# EAGLE library part PD70224 (library Poe)
Dual MOSFET-based Bridge Rectifier
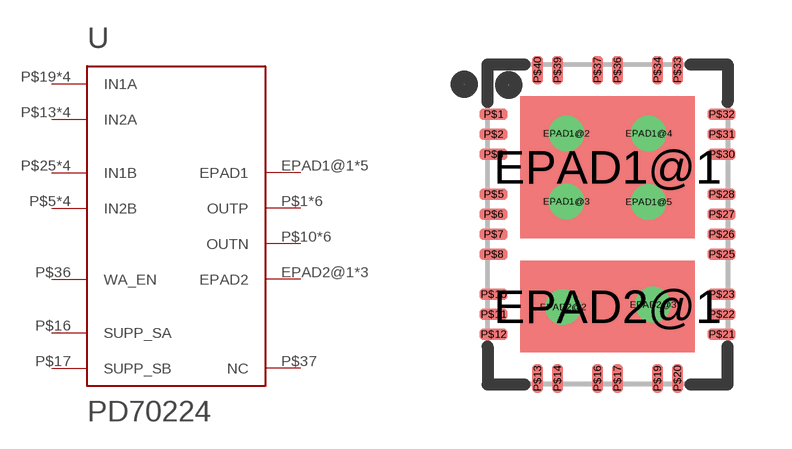
[diagram p6: symbol with the pads of 80-QFN(6X8); footprint 80-QFN(6X8)]

Designator prefix U

## PD70224  [80-QFN(6X8)]
EPAD1@1  EPAD1
EPAD1@2  EPAD1
EPAD1@3  EPAD1
EPAD1@4  EPAD1
EPAD1@5  EPAD1
EPAD2@1  EPAD2
EPAD2@2  EPAD2
EPAD2@3  EPAD2
P$1  OUTP
P$2  OUTP
P$3  OUTP
P$5  IN2B
P$6  IN2B
P$7  IN2B
P$8  IN2B
P$10  OUTN
P$11  OUTN
P$12  OUTN
P$13  IN2A
P$14  IN2A
P$16  SUPP_SA
P$17  SUPP_SB
P$19  IN1A
P$20  IN1A
P$21  OUTN
P$22  OUTN
P$23  OUTN
P$25  IN1B
P$26  IN1B
P$27  IN1B
P$28  IN1B
P$30  OUTP
P$31  OUTP
P$32  OUTP
P$33  IN1A
P$34  IN1A
P$36  WA_EN
P$37  NC
P$39  IN2A
P$40  IN2A

## Footprint 80-QFN(6X8) (pad centres in mm)
smd 4.37 x 3.56: EPAD1@1 0,1.425
drill 0.381: EPAD1@2 -1.03,2.27; EPAD1@3 -1.03,0.57; EPAD1@4 1.03,2.27; EPAD1@5 1.03,0.56; EPAD2@2 -1.11,-2.07; EPAD2@3 1.14,-2.01
smd 4.37 x 2.29: EPAD2@1 0,-2.06
smd 0.7 x 0.28: P$1 -2.85,2.75; P$2 -2.85,2.25; P$3 -2.85,1.75; P$5 -2.85,0.75; P$6 -2.85,0.25; P$7 -2.85,-0.25; P$8 -2.85,-0.75; P$10 -2.85,-1.75; P$11 -2.85,-2.25; P$12 -2.85,-2.75; P$21 2.85,-2.75; P$22 2.85,-2.25; P$23 2.85,-1.75; P$25 2.85,-0.75; P$26 2.85,-0.25; P$27 2.85,0.25; P$28 2.85,0.75; P$30 2.85,1.75; P$31 2.85,2.25; P$32 2.85,2.75
smd 0.28 x 0.7: P$13 -1.75,-3.855; P$14 -1.25,-3.855; P$16 -0.25,-3.855; P$17 0.25,-3.855; P$19 1.25,-3.855; P$20 1.75,-3.855; P$33 1.75,3.855; P$34 1.25,3.855; P$36 0.25,3.855; P$37 -0.25,3.855; P$39 -1.25,3.855; P$40 -1.75,3.855